# Altium integrated library TPS7A5201RPSR.IntLib: 1 symbol
Pins are listed as number, name and electrical type; pins without a type are passive.

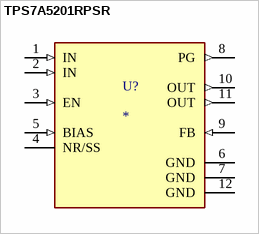
[diagram p0: symbol TPS7A5201RPSR]

## TPS7A5201RPSR
designator U?
MF: {'manufacturer': u'Texas Instruments'}; MP: TPS7A5201RPSR; Package: None; Price: None; Value: *; Availability: Unavailable
footprint IC_TPS7A5201RPSR
pins: 1 IN (in), 2 IN (in), 3 EN (in), 4 NR/SS, 5 BIAS (in), 6 GND (power), 7 GND (power), 8 PG (out), 9 FB (in), 10 OUT (out), 11 OUT (out), 12 GND (power)